# EAGLE library part MOLEX_87759_1450 (library maka-niu)
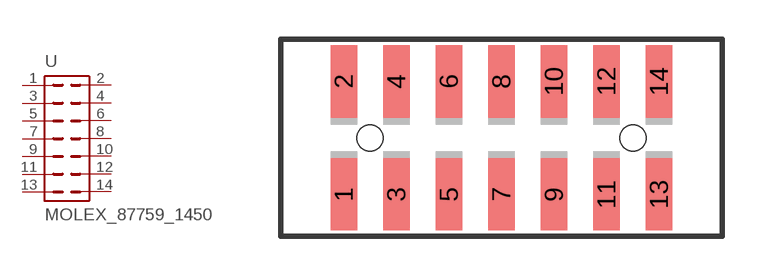
[diagram p4: symbol with the pads of 87759-1450; footprint 87759-1450]

Designator prefix -

## MOLEX_87759_1450  [87759-1450]
1  1  pas
2  2  pas
3  3  pas
4  4  pas
5  5  pas
6  6  pas
7  7  pas
8  8  pas
9  9  pas
10  10  pas
11  11  pas
12  12  pas
13  13  pas
14  14  pas

## Footprint 87759-1450 (pad centres in mm)
Molex Milli-Grid™ Header, Surface Mount, Vertical, Unshrouded, 14 Circuits, PCB Locator Datasheet <https://www.molex.com/pdm_docs/sd/877591450_sd.pdf>
smd 1 x 2.75: 1 -6,-2.15; 2 -6,2.15; 3 -4,-2.15; 4 -4,2.15; 5 -2,-2.15; 6 -2,2.15; 7 0,-2.15; 8 0,2.15; 9 2,-2.15; 10 2,2.15; 11 4,-2.15; 12 4,2.15; 13 6,-2.15; 14 6,2.15
hole 1 at -5,0
hole 1 at 5,0